# Altium schematic symbol library BJT-DIODESINC.SchLib: 2 symbols
Pins are listed as number, name and electrical type; pins without a type are passive.

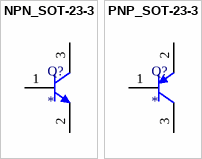
[diagram p0: symbols NPN_SOT-23-3 to PNP_SOT-23-3]

## NPN_SOT-23-3
designator Q?
pins: 1 B, 2 E, 3 C

## PNP_SOT-23-3
designator Q?
pins: 1 B, 2 E, 3 C